# Altium schematic symbol library Schlib1.SchLib: 11 symbols
Pins are listed as number, name and electrical type; pins without a type are passive.

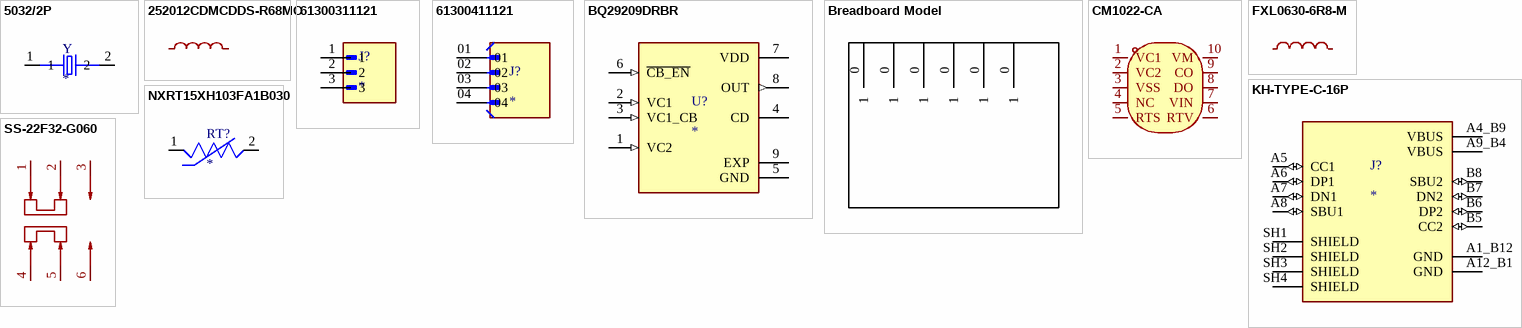
[diagram p0: symbols 5032/2P to SS-22F32-G060]

## 5032/2P
designator Y
SMD Crystal 12Mhz-20pF-20ppm-40R;; MF: Xinhunjing; MP: 5032/2P; Package: None; Value: *; Price: None; Availability: Unavailable; SnapEDA_Link: https://www.snapeda.com/parts/5032/2P/Xinhunjing/view-part/105659/?ref=snap
footprint OSCCC500X320X135
pins: 1, 2

## 252012CDMCDDS-R68MC
designator L?, comment 680nH  (value not drawn)
Manufacturer: Sumida(胜美达); Symbol: 252012CDMCDDS-R68MC; Add into BOM: yes; Tolerance: ±20%; Current - Saturation(Isat): 6.3A; DC Resistance(DCR): 30mΩ; Type: Molded Inductor; Device: 252012CDMCDDS-R68MC; LCSC Part Name: 680nH ±20% 6.3A; Supplier Part: C492726; Manufacturer Part: 252012CDMCDDS-R68MC; Supplier Footprint: 1008; JLCPCB Part Class: Extended Part; Datasheet: https://item.szlcsc.com/datasheet/252012CDMCDDS-R68MC/503355.html; Supplier: LCSC; Convert to PCB: yes; Value: 680nH; Current Rating: -; Ratings: -
footprint IND-SMD_L2.5-W2.0
pins: 1, 2

## 61300311121
designator J?
MP: 61300311121; Package: None; Price: None; Value: *; Availability: Unavailable
footprint WURTH_61300311121
pins: 1, 2, 3

## 61300411121
designator J?
Connector Header Through Hole 4 position 0.100 (2.54mm); MF: WÃ¼rth Elektronik; MP: 61300411121; SnapEDA_Link: https://www.snapeda.com/parts/61300411121/W%25C3%25BCrth+Elektronik+Midcom/view-part/?ref=snap; Package: None; Value: *; Check_prices: https://www.snapeda.com/parts/61300411121/W%25C3%25BCrth+Elektronik+Midcom/view-part/?ref=eda
footprint WURTH_61300411121
pins: 01, 02, 03, 04

## BQ29209DRBR
designator U?
Voltage Protection with Automatic Cell Balance For 2-Cell Li-Ion Batteries, OVP=4.30V; MF: Texas Instruments; MP: BQ29209DRBR; SnapEDA_Link: https://www.snapeda.com/parts/BQ29209DRBR/Texas+Instruments/view-part/?ref=snap; Package: VSON-8 Texas Instruments; Value: *; Check_prices: https://www.snapeda.com/parts/BQ29209DRBR/Texas+Instruments/view-part/?ref=eda
footprint SON65P300X300X100-9N
pins: 1 VC2 (in), 2 VC1 (in), 3 VC1_CB (in), 4 CD, 5 GND (power), 6 ~{CB_EN} (in), 7 VDD (power), 8 OUT (out), 9 EXP (power)

## Breadboard Model
designator BB, comment SS-22F32-G060  (value not drawn)
Manufacturer: G-Switch(品赞); Add into BOM: yes; Circuit: DPDT; Actuator Style: Rectangular Columnar; Switch Height: 13mm; Actuator Color: Black; Current Rating: 1A; Voltage Rating: 24V; Life: 10,000 Cycles; Symbol: SS-22F32-G060; Device: SS-22F32-G060; LCSC Part Name: 柄长6mm 直插两档 滑动开关; Supplier Part: C2848931; Manufacturer Part: SS-22F32-G060; Supplier Footprint: 插件,23.2x7.5mm; JLCPCB Part Class: Extended Part; Datasheet: https://item.szlcsc.com/datasheet/SS-22F32-G060/3048280.html; Supplier: LCSC; Convert to PCB: yes; Termination Style: PC Pin; Length: 23.2mm; Width: 7.5mm; Mounting Type: Through Hole; Operating Temperature: -25℃~+70℃
footprint Breadboard
pins: 0 1, 0 1, 0 1, 0 1, 0 1, 0 1

## CM1022-CA
designator U?  (value not drawn)
Manufacturer: iCM(创芯微); Add into BOM: yes; The Chip Type: Protection IC; Charging Saturation Voltage: 4.25V; End-Off Voltage: 2.5V; Type of Battery: Lithium-ion/Polymer; Number of Cells: 2; Battery Temperature Detection: Support; Supply Current (Iq): 5uA; Symbol: CM1022-CA; Device: CM1022-CA; LCSC Part Name: 2节,带温度保护; Supplier Part: C22446437; Manufacturer Part: CM1022-CA; Supplier Footprint: MSOP-10; JLCPCB Part Class: Extended Part; Datasheet: https://item.szlcsc.com/datasheet/CM1022-CA/24098222.html; Supplier: LCSC; Convert to PCB: yes; Operating Temperature: -40℃~+85℃
footprint MSOP-10_L3.0-W3.0-P0.50-LS4.9-BL - duplicate
pins: 1 VC1, 2 VC2, 3 VSS, 4 NC, 5 RTS, 6 RTV, 7 VIN, 8 DO, 9 CO, 10 VM

## FXL0630-6R8-M
designator L?, comment 6.8uH  (value not drawn)
Manufacturer: cjiang(长江微电); Symbol: FXL0630-6R8-M; Add into BOM: yes; Tolerance: ±20%; Current Rating: 5A; Current - Saturation(Isat): 6A; DC Resistance(DCR): 48mΩ; Type: Molded Inductor; Device: FXL0630-6R8-M; LCSC Part Name: 6.8uH ±20% 6A; Supplier Part: C167221; Manufacturer Part: FXL0630-6R8-M; Supplier Footprint: SMD,7x6.6mm; JLCPCB Part Class: Extended Part; Datasheet: https://item.szlcsc.com/datasheet/FXL0630-6R8-M/178604.html; Supplier: LCSC; Convert to PCB: yes; Value: 6.8uH
footprint IND-SMD_L7.0-W6.6
pins: 1, 2

## KH-TYPE-C-16P
designator J?
MF: kinghelm; MP: KH-TYPE-C-16P; SnapEDA_Link: https://www.snapeda.com/parts/KH-TYPE-C-16P/Kinghelm/view-part/?ref=snap; Package: None; Value: *; Check_prices: https://www.snapeda.com/parts/KH-TYPE-C-16P/Kinghelm/view-part/?ref=eda
footprint KINGHELM_KH-TYPE-C-16P
pins: A1_B12 GND (power), A4_B9 VBUS (power), A5 CC1 (io), A6 DP1 (io), A7 DN1 (io), A8 SBU1 (io), A9_B4 VBUS (power), A12_B1 GND (power), B5 CC2 (io), B6 DP2 (io), B7 DN2 (io), B8 SBU2 (io), SH1 SHIELD, SH2 SHIELD, SH3 SHIELD, SH4 SHIELD

## NXRT15XH103FA1B030
designator RT?
THERMISTOR NTC 10KOHM 3380K BEAD; MF: Murata; MP: NXRT15XH103FA1B030; Package: RADIAL-2 Murata; Price: None; Value: *; SnapEDA_Link: https://www.snapeda.com/parts/NXRT15XH103FA1B030/Murata/view-part/4970536/?ref=snap; Availability: Good; Purchase-URL: https://pricing.snapeda.com/search/part/NXRT15XH103FA1B030/?ref=eda; Check_prices: https://www.snapeda.com/parts/NXRT15XH103FA1B030/Murata/view-part/4970536/?ref=eda
footprint THERM_NXRT15XH103FA1B030
pins: 1, 2

## SS-22F32-G060
designator SW?  (value not drawn)
Manufacturer: G-Switch(品赞); Add into BOM: yes; Circuit: DPDT; Actuator Style: Rectangular Columnar; Switch Height: 13mm; Actuator Color: Black; Current Rating: 1A; Voltage Rating: 24V; Life: 10,000 Cycles; Symbol: SS-22F32-G060; Device: SS-22F32-G060; LCSC Part Name: 柄长6mm 直插两档 滑动开关; Supplier Part: C2848931; Manufacturer Part: SS-22F32-G060; Supplier Footprint: 插件,23.2x7.5mm; JLCPCB Part Class: Extended Part; Datasheet: https://item.szlcsc.com/datasheet/SS-22F32-G060/3048280.html; Supplier: LCSC; Convert to PCB: yes; Termination Style: PC Pin; Length: 23.2mm; Width: 7.5mm; Mounting Type: Through Hole; Operating Temperature: -25℃~+70℃
footprint PCBComponent_1 - duplicate
pins: 1, 2, 3, 4, 5, 6